# Altium footprint library NEW_PCB_2021-12-20.PcbLib: 1 footprints
Each footprint in its own frame and in the unit in brackets; x right, y up, seen from the top. Pads: shape width x height; smd on the part's side, far side on the other; paste and mask are expansions set on the pad; w line width, h text height; cw(c..) or ccw(c..) is an arc to the next point about the centre after c.
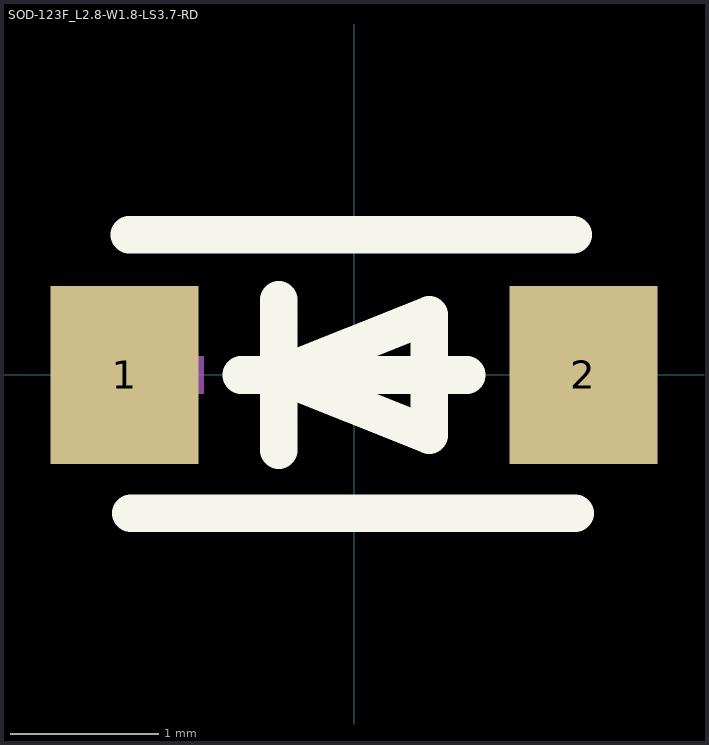
[diagram p0: the footprint, top view; thin cyan lines are the x and y axes]

## SOD-123F_L2.8-W1.8-LS3.7-RD [mm]
pads (2):
  rect 1x1.2 smd: 1(-1.55,0) 2(1.55,0)
Top Overlay:
  lines w0.254: -1.52,0.947 1.48,0.947 ; -1.507,-0.933 1.493,-0.933 ; -0.762,0 0.762,0 ; -0.508,-0.508 -0.508,0.508 ; -0.508,0 0.508,0.406 0.508,-0.406 -0.508,0
Mechanical 15:
  region: 1.143,0.127 2.032,0.127 2.032,-0.127 1.143,-0.127
  region: 1.471,-0.436 1.471,0.453 1.725,0.453 1.725,-0.436
  region: -1.905,0.127 -1.016,0.127 -1.016,-0.127 -1.905,-0.127